# Altium footprint library BTS3035TFATMA1.PcbLib: 1 footprints
Each footprint in its own frame and in the unit in brackets; x right, y up, seen from the top. Pads: shape width x height; smd on the part's side, far side on the other; paste and mask are expansions set on the pad; w line width, h text height; cw(c..) or ccw(c..) is an arc to the next point about the centre after c.
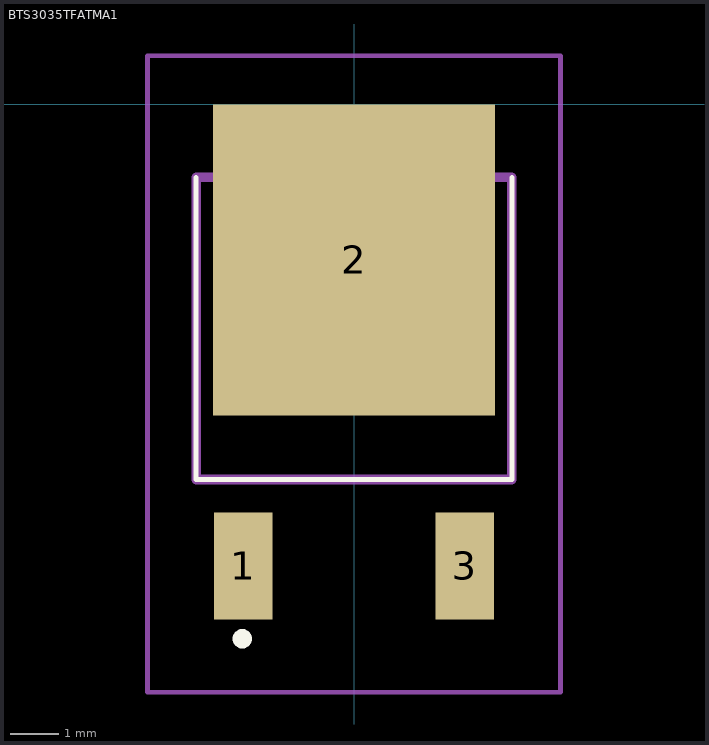
[diagram p0: the footprint, top view; thin cyan lines are the x and y axes]

## BTS3035TFATMA1 [mm]
pads (3):
  rect 1.2x2.2 smd: 1(-2.28,-9.5) 3(2.28,-9.5)
  rect 5.8x6.4 smd: 2(0,-3.2)
Top Overlay:
  lines w0.1: -3.25,-1.5 -3.25,-7.72 3.25,-7.72 3.25,-1.5
  lines w0.2: -2.4,-11 -2.4,-11 ; -2.4,-11 ccw(c-2.3,-11) -2.2,-11 ; -2.4,-11 cw(c-2.3,-11) -2.2,-11 ; -2.2,-11 -2.2,-11
Mechanical 15:
  lines w0.2: -3.25,-7.72 3.25,-7.72 3.25,-1.5 -3.25,-1.5 -3.25,-7.72
Mechanical 20:
  lines w0.1: -4.25,-12.1 4.25,-12.1 4.25,1 -4.25,1 -4.25,-12.1
3D body "IPD650P06NMATMA1.stp": height 5.8, standoff -4.65, extent -10,-3.376 10,3.376